# Altium footprint library COMM_SCHPCB.PcbLib: 136 footprints (part 1 of 9)
Each footprint in its own frame and in the unit in brackets; x right, y up, seen from the top. Pads: shape width x height; smd on the part's side, far side on the other; paste and mask are expansions set on the pad; w line width, h text height; cw(c..) or ccw(c..) is an arc to the next point about the centre after c.
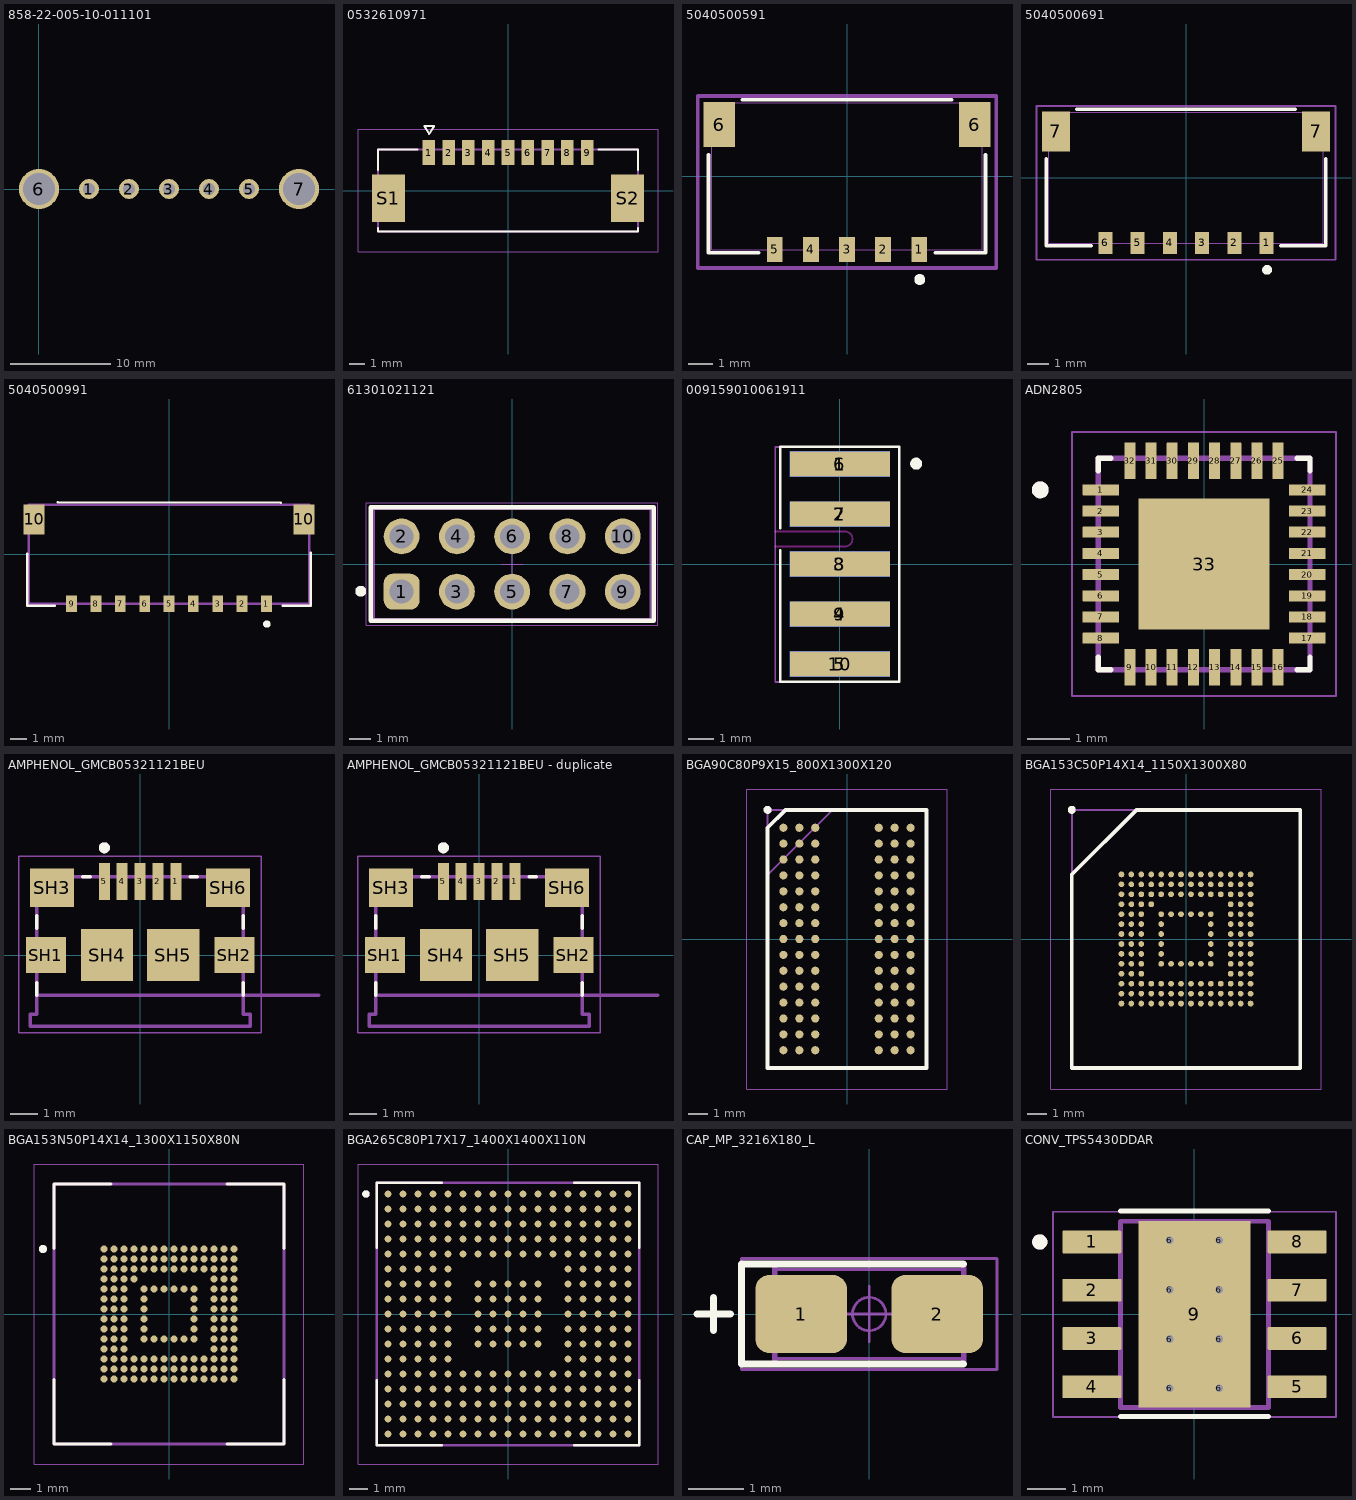
[diagram p0: the footprints below, top view; thin cyan lines are the x and y axes]

## 858-22-005-10-011101 [mil]
pads (7):
  round 79 hole 47 paste-99999: 1(196.85,0) 2(354.33,0) 3(511.81,0) 4(669.29,0) 5(826.77,0)
  round 157.48 hole 125.2 paste-99999: 6(0,0) 7(1023.62,0)
3D body "858-22-005-10-011101--3DModel-STEP-56544.STEP": height 378, standoff -125, extent -157.49,-157.5 1181.11,157.5

## 0532610971 [mm] "CONN HEADER SMD R/A 9POS 1.25MM"
pads (11):
  rect 0.8x1.6 smd mask+0.076: 1(-5,2.4) 2(-3.75,2.4) 3(-2.5,2.4) 4(-1.25,2.4) 5(0,2.4) 6(1.25,2.4) 7(2.5,2.4) 8(3.75,2.4) 9(5,2.4)
  rect 2.1x3 smd mask+0.076: S1(-7.55,-0.5) S2(7.55,-0.5)
Top Overlay:
  lines w0.127: -8.2,-2.35 -8.2,-2.6 8.2,-2.6 8.2,-2.35 ; -8.2,1.3 -8.2,2.6 -5.72,2.6 ; 5.72,2.6 8.2,2.6 8.2,1.3 ; -5.278,4.067 -4.678,4.067 -4.978,3.567 -5.278,4.067
Top Assembly:
  text "'.Designator'" at -11.717,-2.718 h1.9
Mechanical 13:
  lines w0.127: -8.2,-2.6 8.2,-2.6 8.2,2.6 -8.2,2.6 -8.2,-2.6 ; -5.278,4.067 -4.678,4.067 -4.978,3.567 -5.278,4.067
Mechanical 15:
  lines w0.05: -9.47,-3.87 9.47,-3.87 9.47,3.87 -9.47,3.87 -9.47,-3.87
3D body "0532610971.stp": height 3.2, standoff -0.2, extent -8.2,-2.667 8.2,2.533

## 5040500591 [mil]
pads (7):
  rect 26x41 smd: 1(118.11,-119.76) 2(59.06,-119.76) 3(0,-119.76) 4(-59.06,-119.76) 5(-118.11,-119.76)
  rect 51x73 smd: 6(-208.86,84.57) 6(208.86,84.57)
Top Overlay:
  circle w10: c119,-169 r3.94
  lines w6: -226.5,34.97 -226.5,-125 -144.21,-125 ; -170.86,125 170.86,125 ; 144.21,-125 226.5,-125 226.5,34.97
Mechanical 13:
  lines w1: -221.5,-120 221.5,-120 221.5,120 -221.5,120 -221.5,-120
Mechanical 15:
  lines w6: -244.36,-150.26 -244.36,131.07 244.36,131.07 244.36,-150.26 -244.36,-150.26
3D body "5040500591.stp": height 78.74, standoff 0, extent -237.2,-133.54 237.2,120

## 5040500691 [mil]
pads (8):
  rect 26x41 smd paste+0: 1(147.64,-119.76) 2(88.58,-119.76) 3(29.53,-119.76) 4(-29.53,-119.76) 5(-88.58,-119.76) 6(-147.64,-119.76)
  rect 51x73 smd: 7(-238.19,84.57) 7(238.19,84.57)
Top Overlay:
  circle w10: c148.53,-169 r3.94
  lines w6: -256,34.97 -256,-125 -173.74,-125 ; -200.19,125 200.19,125 ; 173.74,-125 256,-125 256,34.97
Mechanical 13:
  lines w1: -251,-120 251,-120 251,120 -251,120 -251,-120
Mechanical 15:
  lines w3: -273.69,-150.26 -273.69,131.07 273.69,131.07 273.69,-150.26 -273.69,-150.26
3D body "5040500691.stp": height 78.74, standoff 0, extent -266.73,-127.54 266.73,126

## 5040500991 [mil]
pads (11):
  rect 26x41 smd: 1(236.22,-119.76) 2(177.17,-119.76) 3(118.11,-119.76) 4(59.06,-119.76) 5(0,-119.76) 6(-59.06,-119.76) 7(-118.11,-119.76) 8(-177.17,-119.76) 9(-236.22,-119.76)
  rect 51x73 smd: 10(-326.97,84.57) 10(326.97,84.57)
Top Overlay:
  circle w10: c237.11,-169 r3.94
  lines w6: -344,2 -344,-125 -277,-125 ; -270,126 271,125 ; 276,-125 344,-125 344,4
Mechanical 13:
  lines w6: -340,-120 340,-120 340,120 -340,120 -340,-120
3D body "5040500991.stp": height 78.74, standoff 0, extent -354.09,-129.25 356.54,124.29

## 61301021121 [mm] "Pin Header, pitch 2.54 mm, THT, Vertical, dual row, 10p"
height 8.54
pads (10):
  rrect50% 1.65x1.65 hole 1.1: 1(-5.08,-1.27)
  round 1.65 hole 1.1: 2(-5.08,1.27) 3(-2.54,-1.27) 4(-2.54,1.27) 5(0,-1.27) 6(0,1.27) 7(2.54,-1.27) 8(2.54,1.27) 9(5.08,-1.27) 10(5.08,1.27)
Top Overlay:
  circle w0.25: c-6.96,-1.25 r0.125
  lines w0.2: -6.5,-2.615 6.5,-2.615 6.5,2.615 -6.5,2.615 -6.5,-2.615
Top Courtyard:
  lines w0.05: -6.7,-2.815 -6.7,2.815 6.7,2.815 6.7,-2.815 -6.7,-2.815
Top Component Outline:
  lines w0.1: -6.35,-2.54 6.35,-2.54 6.35,2.54 -6.35,2.54 -6.35,-2.54
Top Component Center:
  lines w0.05: -0.5,0 0.5,0 ; 0,-0.5 0,0.5
Top Designator:
  text ".Designator" at -7.498,-0.5 h1.5
3D body "61301021121.stp": height 8.59, standoff -2.95, extent -6.35,-2.54 6.35,2.54

## 009159010061911 [mm]
pads (10):
  rect 4x1 smd paste-2539.97: 1(0,4) 2(0,2) 3(0,0) 4(0,-2) 5(0,-4)
  rect 4x1 smd far side paste-2539.97: 6(0,4) 7(0,2) 8(0,0) 9(0,-2) 10(0,-4)
Top Overlay:
  circle w0.254: c3.048,4.013 r0.114
  lines w0.1: -2.388,0.546 -2.388,-4.7 2.362,-4.7 2.362,4.698 -2.388,4.698 -2.388,1.435
Bottom Overlay:
  lines w0.1: -2.388,0.546 -2.388,-4.7 2.362,-4.7 2.362,4.698 -2.388,4.698 -2.388,1.435
Keep-Out Layer:
  lines w0.076: -2.6,0.7 0.2,0.7 ccw(c0.2,1) 0.2,1.3 -2.6,1.3
Top Component Outline:
  lines w0.076: -2.591,-4.712 -2.591,4.686 2.362,4.686 2.362,-4.712 -2.591,-4.712
Bottom Component Outline:
  lines w0.076: -2.591,-4.712 2.362,-4.712 2.362,4.686 -2.591,4.686 -2.591,-4.712

## ADN2805 [mm]
pads (33):
  rrect7% 0.86x0.26 smd: 1(-2.435,1.75) 2(-2.435,1.25) 3(-2.435,0.75) 4(-2.435,0.25) 5(-2.435,-0.25) 6(-2.435,-0.75) 7(-2.435,-1.25) 8(-2.435,-1.75) 17(2.435,-1.75) 18(2.435,-1.25) 19(2.435,-0.75) 20(2.435,-0.25) 21(2.435,0.25) 22(2.435,0.75) 23(2.435,1.25) 24(2.435,1.75)
  rrect7% 0.26x0.86 smd: 9(-1.75,-2.435) 10(-1.25,-2.435) 11(-0.75,-2.435) 12(-0.25,-2.435) 13(0.25,-2.435) 14(0.75,-2.435) 15(1.25,-2.435) 16(1.75,-2.435) 25(1.75,2.435) 26(1.25,2.435) 27(0.75,2.435) 28(0.25,2.435) 29(-0.25,2.435) 30(-0.75,2.435) 31(-1.25,2.435) 32(-1.75,2.435)
  rect 3.1x3.1 smd paste-0.57: 33(0,0)
Top Overlay:
  circle w0.2: c-3.865,1.75 r0.1
  lines w0.127: -2.5,-2.2 -2.5,-2.5 -2.2,-2.5 ; -2.5,2.2 -2.5,2.5 -2.2,2.5 ; 2.2,-2.5 2.5,-2.5 2.5,-2.2 ; 2.2,2.5 2.5,2.5 2.5,2.2
Mechanical 13:
  circle w0.2: c-3.865,1.75 r0.1
  lines w0.127: -2.5,-2.5 -2.5,-1.9 -2.5,1.9 -2.5,2.5 2.5,2.5 2.5,1.9 2.5,-1.9 2.5,-2.5 -2.5,-2.5
Mechanical 15:
  lines w0.05: -3.115,-3.115 3.115,-3.115 3.115,3.115 -3.115,3.115 -3.115,-3.115
3D body "step_temp.STEP": height 0.8, standoff 0, extent -2.5,-2.5 2.5,2.5

## AMPHENOL_GMCB05321121BEU [mm]
height 2.72
pads (11):
  rect 0.4x1.35 smd: 1(1.3,2.675) 2(0.65,2.675) 3(0,2.675) 4(-0.65,2.675) 5(-1.3,2.675)
  rect 1.45x1.3 smd: SH1(-3.425,0) SH2(3.425,0)
  rect 1.6x1.4 smd: SH3(-3.2,2.45) SH6(3.2,2.45)
  rect 1.9x1.9 smd: SH4(-1.2,0) SH5(1.2,0)
Top Overlay:
  circle w0.2: c-1.3,3.9 r0.1
  lines w0.127: -3.75,-1.45 -3.75,-1 ; -3.75,0.97 -3.75,1.43 ; -2.08,2.85 -1.82,2.85 ; 1.82,2.85 2.08,2.85 ; 3.75,-1.45 3.75,-1 ; 3.75,0.97 3.75,1.43
Top Courtyard:
  lines w0.127: -3.75,-1.45 6.5,-1.45
Mechanical 13:
  circle w0.2: c-1.3,3.9 r0.1
  lines w0.127: 6.5,-1.45 -3.75,-1.45 ; -3.75,-1.45 -3.75,-2.15 -3.995,-2.15 -3.995,-2.58 3.995,-2.58 3.995,-2.15 3.75,-2.15 3.75,2.85 -3.75,2.85 -3.75,-1.45
  text "PCB edge" at 4.5,-1.25 h0.81
Mechanical 15:
  lines w0.05: -4.4,-2.83 -4.4,3.6 4.4,3.6 4.4,-2.83 -4.4,-2.83
3D body "step_temp.STEP": height 2.71, standoff -0.23, extent -3.994,-2.565 3.994,2.866

## AMPHENOL_GMCB05321121BEU - duplicate [mm]
height 2.72
pads (11):
  rect 0.4x1.35 smd: 1(1.3,2.675) 2(0.65,2.675) 3(0,2.675) 4(-0.65,2.675) 5(-1.3,2.675)
  rect 1.45x1.3 smd: SH1(-3.425,0) SH2(3.425,0)
  rect 1.6x1.4 smd: SH3(-3.2,2.45) SH6(3.2,2.45)
  rect 1.9x1.9 smd: SH4(-1.2,0) SH5(1.2,0)
Top Overlay:
  circle w0.2: c-1.3,3.9 r0.1
  lines w0.127: -3.75,-1.45 -3.75,-1 ; -3.75,0.97 -3.75,1.43 ; -2.08,2.85 -1.82,2.85 ; 1.82,2.85 2.08,2.85 ; 3.75,-1.45 3.75,-1 ; 3.75,0.97 3.75,1.43
Top Courtyard:
  lines w0.127: -3.75,-1.45 6.5,-1.45
Mechanical 13:
  circle w0.2: c-1.3,3.9 r0.1
  lines w0.127: 6.5,-1.45 -3.75,-1.45 ; -3.75,-1.45 -3.75,-2.15 -3.995,-2.15 -3.995,-2.58 3.995,-2.58 3.995,-2.15 3.75,-2.15 3.75,2.85 -3.75,2.85 -3.75,-1.45
  text "PCB edge" at 4.5,-1.25 h0.81
Mechanical 15:
  lines w0.05: -4.4,-2.83 -4.4,3.6 4.4,3.6 4.4,-2.83 -4.4,-2.83
3D body "step_temp.STEP": height 2.71, standoff -0.23, extent -13.341,-2.489 -5.353,2.942
3D body "ZX62R-B-5P.stp": height 2.71, standoff -0.23, extent -4.395,-2.603 4.405,3.129

## BGA90C80P9X15_800X1300X120 [mm]
pads (90):
  round 0.41 smd: A1(-3.2,5.6) A2(-2.4,5.6) A3(-1.6,5.6) A7(1.6,5.6) A8(2.4,5.6) A9(3.2,5.6) B1(-3.2,4.8) B2(-2.4,4.8) B3(-1.6,4.8) B7(1.6,4.8) B8(2.4,4.8) B9(3.2,4.8) C1(-3.2,4) C2(-2.4,4) C3(-1.6,4) C7(1.6,4) C8(2.4,4) C9(3.2,4) D1(-3.2,3.2) D2(-2.4,3.2) D3(-1.6,3.2) D7(1.6,3.2) D8(2.4,3.2) D9(3.2,3.2) E1(-3.2,2.4) E2(-2.4,2.4) E3(-1.6,2.4) E7(1.6,2.4) E8(2.4,2.4) E9(3.2,2.4) F1(-3.2,1.6) F2(-2.4,1.6) F3(-1.6,1.6) F7(1.6,1.6) F8(2.4,1.6) F9(3.2,1.6) G1(-3.2,0.8) G2(-2.4,0.8) G3(-1.6,0.8) G7(1.6,0.8) G8(2.4,0.8) G9(3.2,0.8) H1(-3.2,0) H2(-2.4,0) H3(-1.6,0) H7(1.6,0) H8(2.4,0) H9(3.2,0) J1(-3.2,-0.8) J2(-2.4,-0.8) J3(-1.6,-0.8) J7(1.6,-0.8) J8(2.4,-0.8) J9(3.2,-0.8) K1(-3.2,-1.6) K2(-2.4,-1.6) K3(-1.6,-1.6) K7(1.6,-1.6) K8(2.4,-1.6) K9(3.2,-1.6) L1(-3.2,-2.4) L2(-2.4,-2.4) L3(-1.6,-2.4) L7(1.6,-2.4) L8(2.4,-2.4) L9(3.2,-2.4) M1(-3.2,-3.2) M2(-2.4,-3.2) M3(-1.6,-3.2) M7(1.6,-3.2) M8(2.4,-3.2) M9(3.2,-3.2) N1(-3.2,-4) N2(-2.4,-4) N3(-1.6,-4) N7(1.6,-4) N8(2.4,-4) N9(3.2,-4) P1(-3.2,-4.8) P2(-2.4,-4.8) P3(-1.6,-4.8) P7(1.6,-4.8) P8(2.4,-4.8) P9(3.2,-4.8) R1(-3.2,-5.6) R2(-2.4,-5.6) R3(-1.6,-5.6) R7(1.6,-5.6) R8(2.4,-5.6) R9(3.2,-5.6)
Top Overlay:
  circle w0.2: c-4,6.5 r0.1
  lines w0.2: -4,-6.5 -4,5.6 -3.1,6.5 4,6.5 4,-6.5 -4,-6.5
Mechanical 15:
  lines w0.1: -4,3.225 -0.725,6.5 ; -4,-6.5 -4,6.5 4,6.5 4,-6.5 -4,-6.5
Mechanical 20:
  lines w0.05: -5.05,-7.55 -5.05,7.55 5.05,7.55 5.05,-7.55 -5.05,-7.55
3D body "IS42S32400J-6BL.stp": height 1.2, standoff 0, extent -4,-6.5 4,6.5

## BGA153C50P14X14_1150X1300X80 [mm]
pads (153):
  round 0.29 smd: A1(-3.25,3.25) A2(-2.75,3.25) A3(-2.25,3.25) A4(-1.75,3.25) A5(-1.25,3.25) A6(-0.75,3.25) A7(-0.25,3.25) A8(0.25,3.25) A9(0.75,3.25) A10(1.25,3.25) A11(1.75,3.25) A12(2.25,3.25) A13(2.75,3.25) A14(3.25,3.25) B1(-3.25,2.75) B2(-2.75,2.75) B3(-2.25,2.75) B4(-1.75,2.75) B5(-1.25,2.75) B6(-0.75,2.75) B7(-0.25,2.75) B8(0.25,2.75) B9(0.75,2.75) B10(1.25,2.75) B11(1.75,2.75) B12(2.25,2.75) B13(2.75,2.75) B14(3.25,2.75) C1(-3.25,2.25) C2(-2.75,2.25) C3(-2.25,2.25) C4(-1.75,2.25) C5(-1.25,2.25) C6(-0.75,2.25) C7(-0.25,2.25) C8(0.25,2.25) C9(0.75,2.25) C10(1.25,2.25) C11(1.75,2.25) C12(2.25,2.25) C13(2.75,2.25) C14(3.25,2.25) D1(-3.25,1.75) D2(-2.75,1.75) D3(-2.25,1.75) D4(-1.75,1.75) D12(2.25,1.75) D13(2.75,1.75) D14(3.25,1.75) E1(-3.25,1.25) E2(-2.75,1.25) E3(-2.25,1.25) E5(-1.25,1.25) E6(-0.75,1.25) E7(-0.25,1.25) E8(0.25,1.25) E9(0.75,1.25) E10(1.25,1.25) E12(2.25,1.25) E13(2.75,1.25) E14(3.25,1.25) F1(-3.25,0.75) F2(-2.75,0.75) F3(-2.25,0.75) F5(-1.25,0.75) F10(1.25,0.75) F12(2.25,0.75) F13(2.75,0.75) F14(3.25,0.75) G1(-3.25,0.25) G2(-2.75,0.25) G3(-2.25,0.25) G5(-1.25,0.25) G10(1.25,0.25) G12(2.25,0.25) G13(2.75,0.25) G14(3.25,0.25) H1(-3.25,-0.25) H2(-2.75,-0.25) H3(-2.25,-0.25) H5(-1.25,-0.25) H10(1.25,-0.25) H12(2.25,-0.25) H13(2.75,-0.25) H14(3.25,-0.25) J1(-3.25,-0.75) J2(-2.75,-0.75) J3(-2.25,-0.75) J5(-1.25,-0.75) J10(1.25,-0.75) J12(2.25,-0.75) J13(2.75,-0.75) J14(3.25,-0.75) K1(-3.25,-1.25) K2(-2.75,-1.25) K3(-2.25,-1.25) K5(-1.25,-1.25) K6(-0.75,-1.25) K7(-0.25,-1.25) K8(0.25,-1.25) K9(0.75,-1.25) K10(1.25,-1.25) K12(2.25,-1.25) K13(2.75,-1.25) K14(3.25,-1.25) L1(-3.25,-1.75) L2(-2.75,-1.75) L3(-2.25,-1.75) L12(2.25,-1.75) L13(2.75,-1.75) L14(3.25,-1.75) M1(-3.25,-2.25) M2(-2.75,-2.25) M3(-2.25,-2.25) M4(-1.75,-2.25) M5(-1.25,-2.25) M6(-0.75,-2.25) M7(-0.25,-2.25) M8(0.25,-2.25) M9(0.75,-2.25) M10(1.25,-2.25) M11(1.75,-2.25) M12(2.25,-2.25) M13(2.75,-2.25) M14(3.25,-2.25) N1(-3.25,-2.75) N2(-2.75,-2.75) N3(-2.25,-2.75) N4(-1.75,-2.75) N5(-1.25,-2.75) N6(-0.75,-2.75) N7(-0.25,-2.75) N8(0.25,-2.75) N9(0.75,-2.75) N10(1.25,-2.75) N11(1.75,-2.75) N12(2.25,-2.75) N13(2.75,-2.75) N14(3.25,-2.75) P1(-3.25,-3.25) P2(-2.75,-3.25) P3(-2.25,-3.25) P4(-1.75,-3.25) P5(-1.25,-3.25) P6(-0.75,-3.25) P7(-0.25,-3.25) P8(0.25,-3.25) P9(0.75,-3.25) P10(1.25,-3.25) P11(1.75,-3.25) P12(2.25,-3.25) P13(2.75,-3.25) P14(3.25,-3.25)
Top Overlay:
  circle w0.2: c-5.75,6.5 r0.1
  lines w0.2: -5.75,-6.5 5.75,-6.5 5.75,6.5 -2.5,6.5 -5.75,3.25 -5.75,-6.5
Mechanical 15:
  lines w0.1: -5.75,3.225 -2.475,6.5 ; -5.75,-6.5 5.75,-6.5 5.75,6.5 -5.75,6.5 -5.75,-6.5
Mechanical 20:
  lines w0.05: -6.8,-7.55 6.8,-7.55 6.8,7.55 -6.8,7.55 -6.8,-7.55
3D body "THGBMTG5D1LBAIL.stp": height 0.8, standoff 0, extent -5.75,-6.5 5.75,6.5

## BGA153N50P14X14_1300X1150X80N [mm]
pads (153):
  round 0.35 smd: A1(-3.25,3.25) A2(-2.75,3.25) A3(-2.25,3.25) A4(-1.75,3.25) A5(-1.25,3.25) A6(-0.75,3.25) A7(-0.25,3.25) A8(0.25,3.25) A9(0.75,3.25) A10(1.25,3.25) A11(1.75,3.25) A12(2.25,3.25) A13(2.75,3.25) A14(3.25,3.25) B1(-3.25,2.75) B2(-2.75,2.75) B3(-2.25,2.75) B4(-1.75,2.75) B5(-1.25,2.75) B6(-0.75,2.75) B7(-0.25,2.75) B8(0.25,2.75) B9(0.75,2.75) B10(1.25,2.75) B11(1.75,2.75) B12(2.25,2.75) B13(2.75,2.75) B14(3.25,2.75) C1(-3.25,2.25) C2(-2.75,2.25) C3(-2.25,2.25) C4(-1.75,2.25) C5(-1.25,2.25) C6(-0.75,2.25) C7(-0.25,2.25) C8(0.25,2.25) C9(0.75,2.25) C10(1.25,2.25) C11(1.75,2.25) C12(2.25,2.25) C13(2.75,2.25) C14(3.25,2.25) D1(-3.25,1.75) D2(-2.75,1.75) D3(-2.25,1.75) D4(-1.75,1.75) D12(2.25,1.75) D13(2.75,1.75) D14(3.25,1.75) E1(-3.25,1.25) E2(-2.75,1.25) E3(-2.25,1.25) E5(-1.25,1.25) E6(-0.75,1.25) E7(-0.25,1.25) E8(0.25,1.25) E9(0.75,1.25) E10(1.25,1.25) E12(2.25,1.25) E13(2.75,1.25) E14(3.25,1.25) F1(-3.25,0.75) F2(-2.75,0.75) F3(-2.25,0.75) F5(-1.25,0.75) F10(1.25,0.75) F12(2.25,0.75) F13(2.75,0.75) F14(3.25,0.75) G1(-3.25,0.25) G2(-2.75,0.25) G3(-2.25,0.25) G5(-1.25,0.25) G10(1.25,0.25) G12(2.25,0.25) G13(2.75,0.25) G14(3.25,0.25) H1(-3.25,-0.25) H2(-2.75,-0.25) H3(-2.25,-0.25) H5(-1.25,-0.25) H10(1.25,-0.25) H12(2.25,-0.25) H13(2.75,-0.25) H14(3.25,-0.25) J1(-3.25,-0.75) J2(-2.75,-0.75) J3(-2.25,-0.75) J5(-1.25,-0.75) J10(1.25,-0.75) J12(2.25,-0.75) J13(2.75,-0.75) J14(3.25,-0.75) K1(-3.25,-1.25) K2(-2.75,-1.25) K3(-2.25,-1.25) K5(-1.25,-1.25) K6(-0.75,-1.25) K7(-0.25,-1.25) K8(0.25,-1.25) K9(0.75,-1.25) K10(1.25,-1.25) K12(2.25,-1.25) K13(2.75,-1.25) K14(3.25,-1.25) L1(-3.25,-1.75) L2(-2.75,-1.75) L3(-2.25,-1.75) L12(2.25,-1.75) L13(2.75,-1.75) L14(3.25,-1.75) M1(-3.25,-2.25) M2(-2.75,-2.25) M3(-2.25,-2.25) M4(-1.75,-2.25) M5(-1.25,-2.25) M6(-0.75,-2.25) M7(-0.25,-2.25) M8(0.25,-2.25) M9(0.75,-2.25) M10(1.25,-2.25) M11(1.75,-2.25) M12(2.25,-2.25) M13(2.75,-2.25) M14(3.25,-2.25) N1(-3.25,-2.75) N2(-2.75,-2.75) N3(-2.25,-2.75) N4(-1.75,-2.75) N5(-1.25,-2.75) N6(-0.75,-2.75) N7(-0.25,-2.75) N8(0.25,-2.75) N9(0.75,-2.75) N10(1.25,-2.75) N11(1.75,-2.75) N12(2.25,-2.75) N13(2.75,-2.75) N14(3.25,-2.75) P1(-3.25,-3.25) P2(-2.75,-3.25) P3(-2.25,-3.25) P4(-1.75,-3.25) P5(-1.25,-3.25) P6(-0.75,-3.25) P7(-0.25,-3.25) P8(0.25,-3.25) P9(0.75,-3.25) P10(1.25,-3.25) P11(1.75,-3.25) P12(2.25,-3.25) P13(2.75,-3.25) P14(3.25,-3.25)
Top Overlay:
  circle w0.2: c-6.3,3.25 r0.1
  lines w0.127: -5.75,-3.275 -5.75,-6.5 -2.9,-6.5 ; -5.75,3.275 -5.75,6.5 -2.9,6.5 ; 2.9,-6.5 5.75,-6.5 5.75,-3.275 ; 2.9,6.5 5.75,6.5 5.75,3.275
Mechanical 13:
  circle w0.2: c-6.3,3.25 r0.1
  lines w0.127: -5.75,-6.5 5.75,-6.5 5.75,6.5 -5.75,6.5 -5.75,-6.5
Mechanical 15:
  lines w0.05: -6.75,-7.5 6.75,-7.5 6.75,7.5 -6.75,7.5 -6.75,-7.5
3D body "step_temp.STEP": height 0.8, standoff 0, extent -5.75,-6.5 5.75,6.5

## BGA265C80P17X17_1400X1400X110N [mm]
pads (265):
  round 0.37 smd: A1(-6.4,6.4) A2(-5.6,6.4) A3(-4.8,6.4) A4(-4,6.4) A5(-3.2,6.4) A6(-2.4,6.4) A7(-1.6,6.4) A8(-0.8,6.4) A9(0,6.4) A10(0.8,6.4) A11(1.6,6.4) A12(2.4,6.4) A13(3.2,6.4) A14(4,6.4) A15(4.8,6.4) A16(5.6,6.4) A17(6.4,6.4) B1(-6.4,5.6) B2(-5.6,5.6) B3(-4.8,5.6) B4(-4,5.6) B5(-3.2,5.6) B6(-2.4,5.6) B7(-1.6,5.6) B8(-0.8,5.6) B9(0,5.6) B10(0.8,5.6) B11(1.6,5.6) B12(2.4,5.6) B13(3.2,5.6) B14(4,5.6) B15(4.8,5.6) B16(5.6,5.6) B17(6.4,5.6) C1(-6.4,4.8) C2(-5.6,4.8) C3(-4.8,4.8) C4(-4,4.8) C5(-3.2,4.8) C6(-2.4,4.8) C7(-1.6,4.8) C8(-0.8,4.8) C9(0,4.8) C10(0.8,4.8) C11(1.6,4.8) C12(2.4,4.8) C13(3.2,4.8) C14(4,4.8) C15(4.8,4.8) C16(5.6,4.8) C17(6.4,4.8) D1(-6.4,4) D2(-5.6,4) D3(-4.8,4) D4(-4,4) D5(-3.2,4) D6(-2.4,4) D7(-1.6,4) D8(-0.8,4) D9(0,4) D10(0.8,4) D11(1.6,4) D12(2.4,4) D13(3.2,4) D14(4,4) D15(4.8,4) D16(5.6,4) D17(6.4,4) E1(-6.4,3.2) E2(-5.6,3.2) E3(-4.8,3.2) E4(-4,3.2) E5(-3.2,3.2) E6(-2.4,3.2) E7(-1.6,3.2) E8(-0.8,3.2) E9(0,3.2) E10(0.8,3.2) E11(1.6,3.2) E12(2.4,3.2) E13(3.2,3.2) E14(4,3.2) E15(4.8,3.2) E16(5.6,3.2) E17(6.4,3.2) F1(-6.4,2.4) F2(-5.6,2.4) F3(-4.8,2.4) F4(-4,2.4) F5(-3.2,2.4) F13(3.2,2.4) F14(4,2.4) F15(4.8,2.4) F16(5.6,2.4) F17(6.4,2.4) G1(-6.4,1.6) G2(-5.6,1.6) G3(-4.8,1.6) G4(-4,1.6) G5(-3.2,1.6) G7(-1.6,1.6) G8(-0.8,1.6) G9(0,1.6) G10(0.8,1.6) G11(1.6,1.6) G13(3.2,1.6) G14(4,1.6) G15(4.8,1.6) G16(5.6,1.6) G17(6.4,1.6) H1(-6.4,0.8) H2(-5.6,0.8) H3(-4.8,0.8) H4(-4,0.8) H5(-3.2,0.8) H7(-1.6,0.8) H8(-0.8,0.8) H9(0,0.8) H10(0.8,0.8) H11(1.6,0.8) H13(3.2,0.8) H14(4,0.8) H15(4.8,0.8) H16(5.6,0.8) H17(6.4,0.8) J1(-6.4,0) J2(-5.6,0) J3(-4.8,0) J4(-4,0) J5(-3.2,0) J7(-1.6,0) J8(-0.8,0) J9(0,0) J10(0.8,0) J11(1.6,0) J13(3.2,0) J14(4,0) J15(4.8,0) J16(5.6,0) J17(6.4,0) K1(-6.4,-0.8) K2(-5.6,-0.8) K3(-4.8,-0.8) K4(-4,-0.8) K5(-3.2,-0.8) K7(-1.6,-0.8) K8(-0.8,-0.8) K9(0,-0.8) K10(0.8,-0.8) K11(1.6,-0.8) K13(3.2,-0.8) K14(4,-0.8) K15(4.8,-0.8) K16(5.6,-0.8) K17(6.4,-0.8) L1(-6.4,-1.6) L2(-5.6,-1.6) L3(-4.8,-1.6) L4(-4,-1.6) L5(-3.2,-1.6) L7(-1.6,-1.6) L8(-0.8,-1.6) L9(0,-1.6) L10(0.8,-1.6) L11(1.6,-1.6) L13(3.2,-1.6) L14(4,-1.6) L15(4.8,-1.6) L16(5.6,-1.6) L17(6.4,-1.6) M1(-6.4,-2.4) M2(-5.6,-2.4) M3(-4.8,-2.4) M4(-4,-2.4) M5(-3.2,-2.4) M13(3.2,-2.4) M14(4,-2.4) M15(4.8,-2.4) M16(5.6,-2.4) M17(6.4,-2.4) N1(-6.4,-3.2) N2(-5.6,-3.2) N3(-4.8,-3.2) N4(-4,-3.2) N5(-3.2,-3.2) N6(-2.4,-3.2) N7(-1.6,-3.2) N8(-0.8,-3.2) N9(0,-3.2) N10(0.8,-3.2) N11(1.6,-3.2) N12(2.4,-3.2) N13(3.2,-3.2) N14(4,-3.2) N15(4.8,-3.2) N16(5.6,-3.2) N17(6.4,-3.2) P1(-6.4,-4) P2(-5.6,-4) P3(-4.8,-4) P4(-4,-4) P5(-3.2,-4) P6(-2.4,-4) P7(-1.6,-4) P8(-0.8,-4) P9(0,-4) P10(0.8,-4) P11(1.6,-4) P12(2.4,-4) P13(3.2,-4) P14(4,-4) P15(4.8,-4) P16(5.6,-4) P17(6.4,-4) R1(-6.4,-4.8) R2(-5.6,-4.8) R3(-4.8,-4.8) R4(-4,-4.8) R5(-3.2,-4.8) R6(-2.4,-4.8) R7(-1.6,-4.8) R8(-0.8,-4.8) R9(0,-4.8) R10(0.8,-4.8) R11(1.6,-4.8) R12(2.4,-4.8) R13(3.2,-4.8) R14(4,-4.8) R15(4.8,-4.8) R16(5.6,-4.8) R17(6.4,-4.8) T1(-6.4,-5.6) T2(-5.6,-5.6) T3(-4.8,-5.6) T4(-4,-5.6) T5(-3.2,-5.6) T6(-2.4,-5.6) T7(-1.6,-5.6) T8(-0.8,-5.6) T9(0,-5.6) T10(0.8,-5.6) T11(1.6,-5.6) T12(2.4,-5.6) T13(3.2,-5.6) T14(4,-5.6) T15(4.8,-5.6) T16(5.6,-5.6) T17(6.4,-5.6) U1(-6.4,-6.4) U2(-5.6,-6.4) U3(-4.8,-6.4) U4(-4,-6.4) U5(-3.2,-6.4) U6(-2.4,-6.4) U7(-1.6,-6.4) U8(-0.8,-6.4) U9(0,-6.4) U10(0.8,-6.4) U11(1.6,-6.4) U12(2.4,-6.4) U13(3.2,-6.4) U14(4,-6.4) U15(4.8,-6.4) U16(5.6,-6.4) U17(6.4,-6.4)
Top Overlay:
  circle w0.2: c-7.575,6.4 r0.1
  lines w0.127: -7,-3.538 -7,-7 -3.538,-7 ; -7,3.538 -7,7 -3.538,7 ; 3.538,-7 7,-7 7,-3.538 ; 3.538,7 7,7 7,3.538
Mechanical 13:
  circle w0.2: c-7.575,6.4 r0.1
  lines w0.127: -7,-7 -7,7 7,7 7,-7 -7,-7
Mechanical 15:
  lines w0.05: -8,-8 -8,8 8,8 8,-8 -8,-8
3D body "step_temp.STEP": height 1.1, standoff 0, extent -7,-7 7,7

## CAP_MP_3216X180_L [mm] "Molded Capacitor, 2-Leads, Body 3.20x1.65mm, IPC Medium Density"
height 1.8
pads (2):
  rrect35% 1.65x1.4 smd: 1(-1.225,0) 2(1.225,0)
Top Overlay:
  lines w0.125: -3.1,0 -2.5,0 ; -2.8,-0.3 -2.8,0.3 ; 1.7,-0.9 -2.3,-0.9 -2.3,0.9 1.7,0.9
Top Assembly:
  lines w0.1: -1.7,-0.9 1.7,-0.9 1.7,0.9 -1.7,0.9 -1.7,-0.9
  text "'.Designator'" at -4.217,-0.663 h1.6
Top Courtyard:
  lines w0.05: -2.3,-1 2.3,-1 2.3,1 -2.3,1 -2.3,-1
Top Component Outline:
  rectangle: -1.7,-0.7 -0.6,0.7
  region: 1.7,0.7 0.6,0.7 0.6,-0.7 1.7,-0.7
  lines w0.05: -1.7,-0.8 1.7,-0.8 1.7,0.8 -1.7,0.8 -1.7,-0.8
Top Component Center:
  circle w0.05: c0,0 r0.3
  lines w0.05: -0.5,0 0.5,0 ; 0,-0.5 0,0.5
3D body "CAPMP34X16_18N_KEM.step": height 1.85, standoff 0, extent -1.7,-0.8 1.7,0.8

## CONV_TPS5430DDAR [mm] "IC REG BUCK ADJ 3A 8SOPWR"
pads (17):
  rrect10% 1.55x0.6 smd mask+0: 1(-2.7,1.905) 2(-2.7,0.635) 3(-2.7,-0.635) 4(-2.7,-1.905) 5(2.7,-1.905) 6(2.7,-0.635) 7(2.7,0.635) 8(2.7,1.905)
  round 0.3 hole 0.2 mask+0: 6(-0.65,-1.95) 6(-0.65,-0.65) 6(-0.65,0.65) 6(-0.65,1.95) 6(0.65,-1.95) 6(0.65,-0.65) 6(0.65,0.65) 6(0.65,1.95)
  rect 2.95x4.9 smd paste+0: 9(0,0)
Top Overlay:
  circle w0.2: c-4.07,1.905 r0.1
  lines w0.127: -1.944,-2.692 1.956,-2.692 ; -1.944,2.718 1.956,2.718
Top Paste:
  region: 1.3,-1.55 -1.3,-1.55 -1.3,1.55 1.3,1.55
Top Solder:
  drawing of 9 lines, arcs and shapes, not listed
Mechanical 13:
  circle w0.2: c-4.07,1.905 r0.1
  lines w0.127: -1.95,-2.45 1.95,-2.45 1.95,2.45 -1.95,2.45 -1.95,-2.45
Mechanical 15:
  lines w0.05: -3.725,-2.7 3.725,-2.7 3.725,2.7 -3.725,2.7 -3.725,-2.7
3D body "step_temp.STEP": height 1.7, standoff 0, extent -3,-2.45 3,2.45